# Altium footprint library yangliwei.PcbLib: 36 footprints (part 1 of 3)
Each footprint in its own frame and in the unit in brackets; x right, y up, seen from the top. Pads: shape width x height; smd on the part's side, far side on the other; paste and mask are expansions set on the pad; w line width, h text height; cw(c..) or ccw(c..) is an arc to the next point about the centre after c.
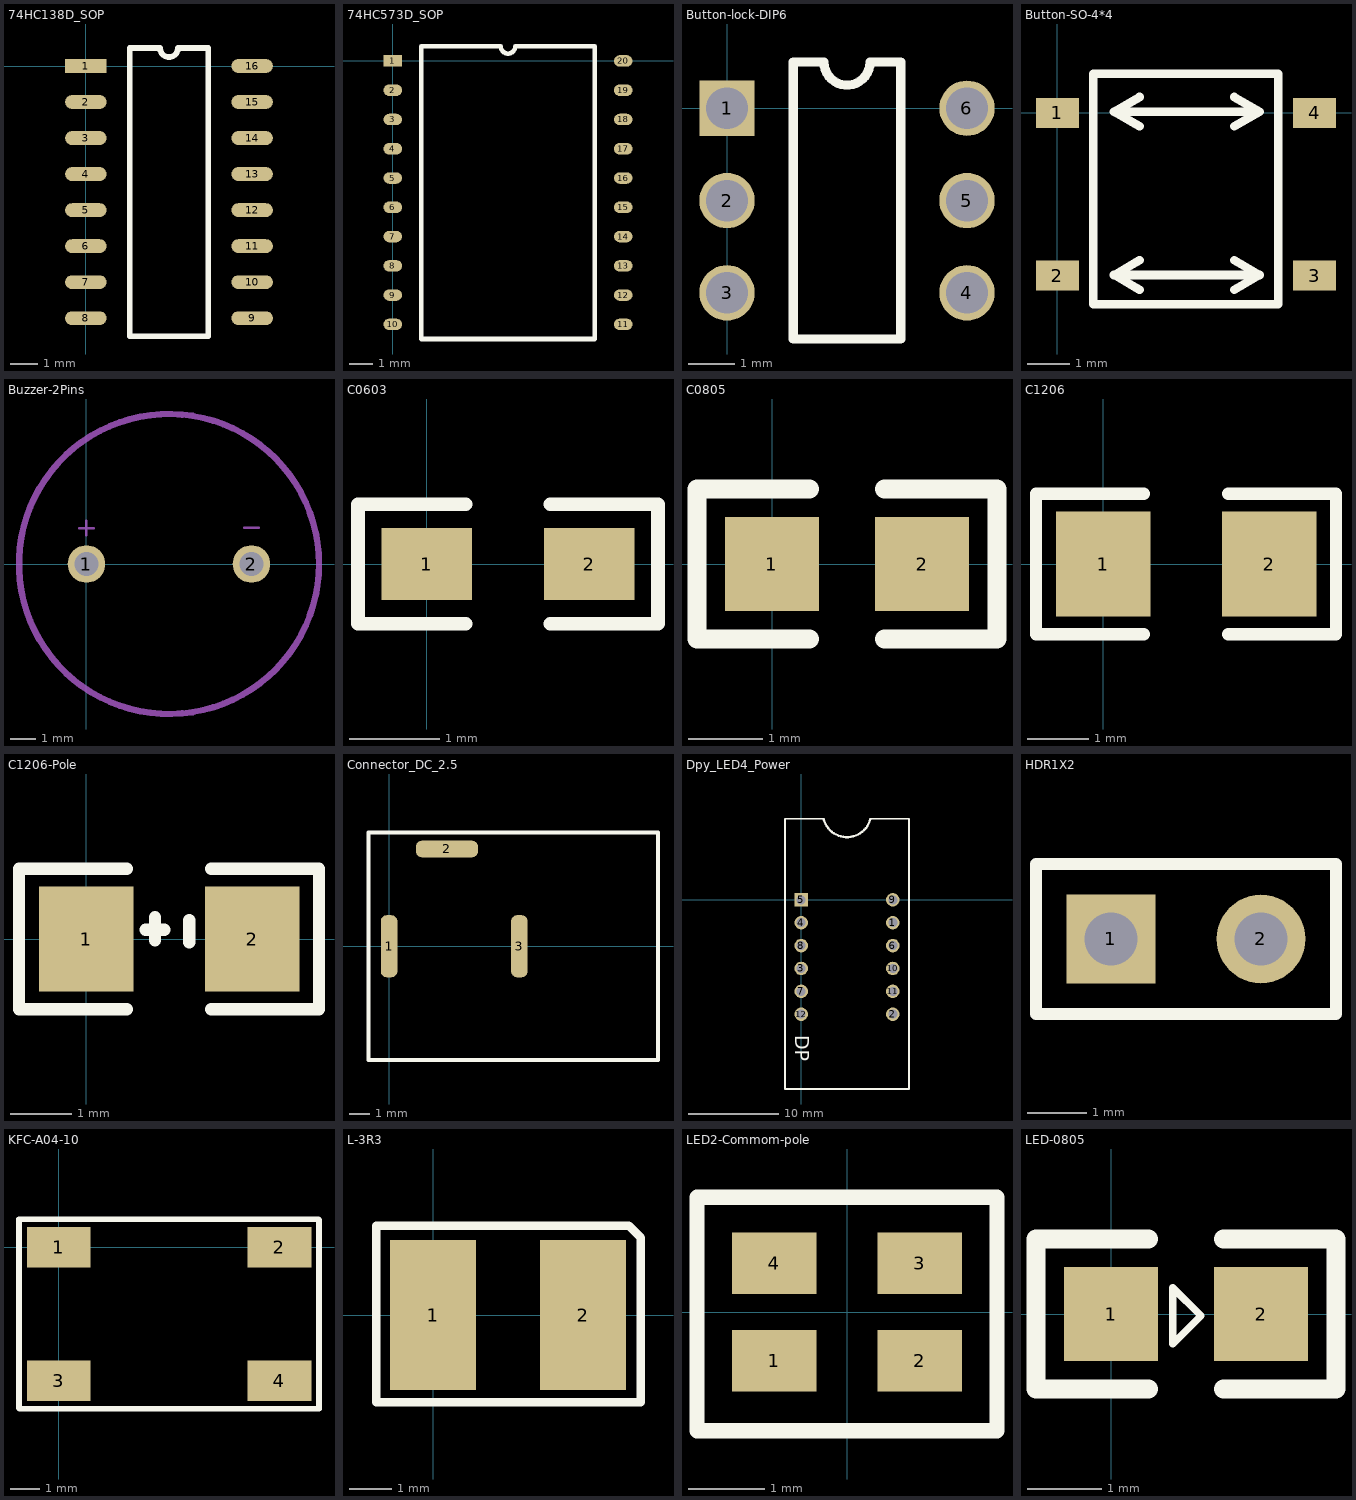
[diagram p0: the footprints below, top view; thin cyan lines are the x and y axes]

## 74HC138D_SOP [mm]
pads (16):
  rect 1.5x0.5 smd: 1(0,0)
  oval 1.5x0.5 smd: 2(0,-1.3) 3(0,-2.6) 4(0,-3.9) 5(0,-5.2) 6(0,-6.5) 7(0,-7.8) 8(0,-9.1) 9(6,-9.1) 10(6,-7.8) 11(6,-6.5) 12(6,-5.2) 13(6,-3.9) 14(6,-2.6) 15(6,-1.3) 16(6,0)
Top Overlay:
  lines w0.2: 1.585,-9.75 1.585,0.65 2.675,0.65 ccw(c3,0.65) 3.325,0.65 4.415,0.65 4.415,-9.75 1.585,-9.75

## 74HC573D_SOP [mm]
pads (20):
  rect 0.8x0.5 smd: 1(0,0)
  oval 0.8x0.5 smd: 2(0,-1.27) 3(0,-2.54) 4(0,-3.81) 5(0,-5.08) 6(0,-6.35) 7(0,-7.62) 8(0,-8.89) 9(0,-10.16) 10(0,-11.43) 11(10,-11.43) 12(10,-10.16) 13(10,-8.89) 14(10,-7.62) 15(10,-6.35) 16(10,-5.08) 17(10,-3.81) 18(10,-2.54) 19(10,-1.27) 20(10,0)
Top Overlay:
  lines w0.2: 1.235,-12.065 8.765,-12.065 8.765,0.635 5.318,0.635 cw(c5,0.635) 4.683,0.635 1.235,0.635 1.235,-12.065

## Button-lock-DIP6 [mm]
pads (6):
  rect 1.2x1.2 hole 0.9: 1(0,0)
  round 1.2 hole 0.9: 2(0,-2) 3(0,-4) 4(5.2,-4) 5(5.2,-2) 6(5.2,0)
Top Overlay:
  lines w0.2: 1.435,-5 3.765,-5 3.765,1 3.1,1 cw(c2.6,1) 2.1,1 1.435,1 1.435,-5

## Button-SO-4*4 [mm] "4mm*4mm"
pads (4):
  rect 1x0.7 smd: 1(0,0) 2(0,-3.8) 3(6,-3.8) 4(6,0)
Top Overlay:
  lines w0.2: 0.838,0.889 0.838,-4.47 5.156,-4.47 5.156,-4.445 5.156,0.914 0.838,0.914 ; 1.915,-4.127 1.321,-3.785 ; 1.915,-3.442 1.321,-3.785 ; 1.915,-0.318 1.321,0.025 ; 1.915,0.368 1.321,0.025 ; 4.13,-4.127 4.724,-3.785 ; 4.13,-3.442 4.724,-3.785 ; 4.13,-0.318 4.724,0.025 ; 4.13,0.368 4.724,0.025 ; 1.321,-3.785 4.724,-3.785 ; 1.321,0.025 4.724,0.025

## Buzzer-2Pins [mm]
height 8.3
pads (2):
  round 1.5 hole 0.96: 1(0,0) 2(6.6,0)
Mechanical 1:
  circle w0.254: c3.3,0 r6
  lines w0.1: -0.292,1.435 0.292,1.435 ; 0,1.143 0,1.727 ; 6.312,1.448 6.896,1.448

## C0603 [mm] "capacity 0603"
pads (2):
  rect 1x0.8 smd: 1(0,0) 2(1.8,0)
Top Overlay:
  lines w0.15: 0.432,-0.66 -0.762,-0.66 -0.762,0.66 0.432,0.66 ; 1.367,-0.66 2.561,-0.66 2.561,0.66 1.367,0.66
3D body "User Library-CapCeramic_Kemet_0603_1608.STEP": height 0.8, standoff 0, extent 0.089,-0.4 1.689,0.4
3D body "User Library-CapCeramic_Kemet_0603_1608.STEP": height 0.8, standoff 0, extent 0.089,-0.425 1.689,0.375

## C0805 [mm] "Capacity 0805 without pole"
pads (2):
  rect 1.27x1.27 smd: 1(0,0) 2(2.032,0)
Top Overlay:
  lines w0.254: 0.508,-1.016 -1.016,-1.016 -1.016,1.016 0.508,1.016 ; 1.524,-1.016 3.048,-1.016 3.048,1.016 1.524,1.016
3D body "0805 SMD Capacitor.STEP": height 0.78, standoff 0, extent 0.016,-0.615 2.016,0.635

## C1206 [mm] "Capacity 1206 without pole"
pads (2):
  rect 1.532x1.7 smd: 1(0,0) 2(2.7,0)
Top Overlay:
  lines w0.2: 0.66,-1.143 -1.092,-1.143 -1.092,1.143 0.66,1.143 ; 2.032,-1.143 3.785,-1.143 3.785,1.143 2.032,1.143
3D body "User Library-Chip Cap_MLCC_1206 (3216)_C.STEP": height 0.95, standoff 0, extent -0.254,-0.787 2.946,0.813

## C1206-Pole [mm] "C1206 with pole"
pads (2):
  rect 1.532x1.7 smd: 1(0,0) 2(2.7,0)
Top Overlay:
  lines w0.2: 0.66,-1.143 -1.092,-1.143 -1.092,1.143 0.66,1.143 ; 0.965,0.152 1.27,0.152 ; 1.118,-0.025 1.118,0.356 ; 1.676,-0.051 1.676,0.305 ; 2.032,-1.143 3.785,-1.143 3.785,1.143 2.032,1.143
3D body "User Library-Chip Cap_MLCC_1206 (3216)_C.STEP": height 0.95, standoff 0, extent -0.254,-0.787 2.946,0.813

## Connector_DC_2.5 [mm]
height 4
pads (3):
  rrect70% 0.8x3 all layers, no hole: 1(0,0) 3(6.3,0)
  rrect70% 3x0.8 all layers, no hole: 2(2.8,4.7)
Top Overlay:
  lines w0.2: -1,-5.5 13,-5.5 13,5.5 -1,5.5 -1,-5.5

## Dpy_LED4_Power [mm]
height 7.2
pads (12):
  round 1.5 hole 1: 1(10.16,-2.54) 2(10.16,-12.7) 3(0,-7.62) 4(0,-2.54) 6(10.16,-5.08) 7(0,-10.16) 8(0,-5.08) 9(10.16,0) 10(10.16,-7.62) 11(10.16,-10.16) 12(0,-12.7)
  rect 1.5x1.5 hole 1: 5(0,0)
Top Overlay:
  lines w0.2: 2.489,8.941 2.489,9 -1.8,9 -1.8,-21 11.96,-21 11.96,9 7.671,9
  lines w0.254: 2.499,8.93 ccw(c5.08,9.627) 7.668,8.958
  text "DP" at -0.686,-15.037 h1.52

## HDR1X2 [mm] "Header 2pin 2.54"
pads (2):
  rect 1.5x1.5 hole 0.9: 1(22.936,10.236)
  round 1.5 hole 0.9: 2(25.476,10.236)
Top Overlay:
  lines w0.2: 21.666,8.966 21.666,11.506 26.746,11.506 26.746,8.966 21.666,8.966

## KFC-A04-10 [mm] "Switch KFC-A04-10 surface"
pads (4):
  rect 2.2x1.4 smd: 1(0,0) 2(7.6,0) 3(0,-4.6) 4(7.6,-4.6)
Top Overlay:
  lines w0.2: -1.372,-5.537 -1.372,0.965 8.941,0.965 8.966,0.94 8.966,-5.563 -1.346,-5.563 -1.372,-5.537
3D body "SW3dPS-switch.STEP": height 5, standoff 0, extent -0.69,-5.286 8.31,0.714

## L-3R3 [mm] "Inductance surface 3.3uH"
pads (2):
  rect 2x3.5 smd: 1(0,0) 2(3.5,0)
Top Overlay:
  lines w0.2: -1.321,-2.032 -1.321,2.083 4.572,2.083 4.851,1.803 4.851,-2.032 -1.321,-2.032

## LED2-Commom-pole [mm] "2 LED with common pole"
pads (4):
  rect 1.1x0.8 smd: 1(-0.95,-0.635) 2(0.95,-0.635) 3(0.95,0.635) 4(-0.95,0.635)
Top Overlay:
  lines w0.2: -1.956,-1.549 1.956,-1.549 ; -1.956,-1.524 -1.956,1.499 ; -1.93,1.499 1.956,1.499 1.956,-1.524

## LED-0805 [mil]
height 39.37
pads (2):
  rect 50x50 smd: 1(0,0) 2(80,0)
Top Overlay:
  lines w3.94: 33.02,-16 48.02,-1 33.02,14 33.02,-16
  lines w10: 20,-40 -40,-40 -40,40 20,40 ; 60,-40 120,-40 120,40 60,40